# Altium schematic symbol library Schlib1.SchLib: 21 symbols
Pins are listed as number, name and electrical type; pins without a type are passive.

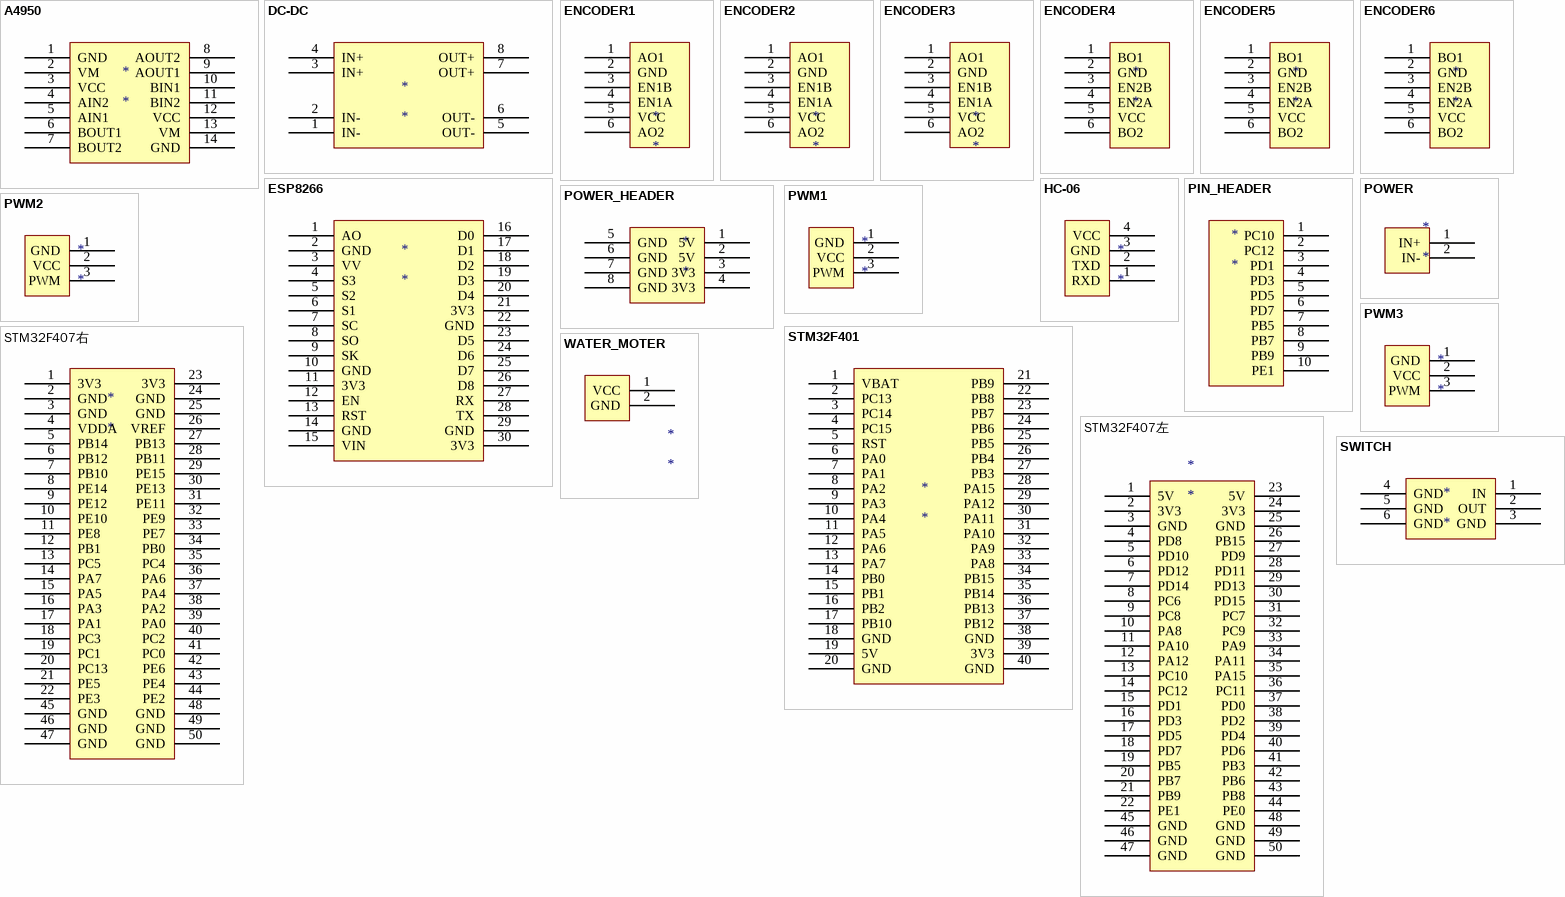
[diagram p0: symbols A4950 to WATER_MOTER]

## A4950
designator *
footprint A4950
pins: 1 GND, 2 VM, 3 VCC, 4 AIN2, 5 AIN1, 6 BOUT1, 7 BOUT2, 8 AOUT2, 9 AOUT1, 10 BIN1, 11 BIN2, 12 VCC, 13 VM, 14 GND

## DC-DC
designator *
footprint DC-DC
pins: 1 IN-, 2 IN-, 3 IN+, 4 IN+, 5 OUT-, 6 OUT-, 7 OUT+, 8 OUT+

## ENCODER1
designator *
footprint ENCODER1
footprint ENCODER1
pins: 1 AO1, 2 GND, 3 EN1B, 4 EN1A, 5 VCC, 6 AO2

## ENCODER2
designator *
footprint ENCODER1
pins: 1 AO1, 2 GND, 3 EN1B, 4 EN1A, 5 VCC, 6 AO2

## ENCODER3
designator *
footprint ENCODER1
pins: 1 AO1, 2 GND, 3 EN1B, 4 EN1A, 5 VCC, 6 AO2

## ENCODER4
designator *
footprint ENCODER2
pins: 1 BO1, 2 GND, 3 EN2B, 4 EN2A, 5 VCC, 6 BO2

## ENCODER5
designator *
footprint ENCODER2
pins: 1 BO1, 2 GND, 3 EN2B, 4 EN2A, 5 VCC, 6 BO2

## ENCODER6
designator *
footprint ENCODER2
pins: 1 BO1, 2 GND, 3 EN2B, 4 EN2A, 5 VCC, 6 BO2

## ESP8266
designator *
footprint ESP
pins: 1 AO, 2 GND, 3 VV, 4 S3, 5 S2, 6 S1, 7 SC, 8 SO, 9 SK, 10 GND, 11 3V3, 12 EN, 13 RST, 14 GND, 15 VIN, 16 D0, 17 D1, 18 D2, 19 D3, 20 D4, 21 3V3, 22 GND, 23 D5, 24 D6, 25 D7, 26 D8, 27 RX, 28 TX, 29 GND, 30 3V3

## HC-06
designator *
footprint HC-06
pins: 1 RXD, 2 TXD, 3 GND, 4 VCC

## PIN_HEADER
designator *
footprint PIN_HEADER
pins: 1 PC10, 2 PC12, 3 PD1, 4 PD3, 5 PD5, 6 PD7, 7 PB5, 8 PB7, 9 PB9, 10 PE1

## POWER
designator *
footprint POWER
pins: 1 IN+, 2 IN-

## POWER_HEADER
designator *
footprint POWER_HEADER
footprint POWER_HEADER
pins: 1 5V, 2 5V, 3 3V3, 4 3V3, 5 GND, 6 GND, 7 GND, 8 GND

## PWM1
designator *
footprint PWM
pins: 1 GND, 2 VCC, 3 PWM

## PWM2
designator *
footprint PWM
pins: 1 GND, 2 VCC, 3 PWM

## PWM3
designator *
footprint PWM
pins: 1 GND, 2 VCC, 3 PWM

## STM32F401
designator *
footprint STM32F401CCU6
pins: 1 VBAT, 2 PC13, 3 PC14, 4 PC15, 5 RST, 6 PA0, 7 PA1, 8 PA2, 9 PA3, 10 PA4, 11 PA5, 12 PA6, 13 PA7, 14 PB0, 15 PB1, 16 PB2, 17 PB10, 18 GND, 19 5V, 20 GND, 21 PB9, 22 PB8, 23 PB7, 24 PB6, 25 PB5, 26 PB4, 27 PB3, 28 PA15, 29 PA12, 30 PA11, 31 PA10, 32 PA9, 33 PA8, 34 PB15, 35 PB14, 36 PB13, 37 PB12, 38 GND, 39 3V3, 40 GND

## STM32F407右
designator *
footprint STM32F407左
pins: 1 3V3, 2 GND, 3 GND, 4 VDDA, 5 PB14, 6 PB12, 7 PB10, 8 PE14, 9 PE12, 10 PE10, 11 PE8, 12 PB1, 13 PC5, 14 PA7, 15 PA5, 16 PA3, 17 PA1, 18 PC3, 19 PC1, 20 PC13, 21 PE5, 22 PE3, 23 3V3, 24 GND, 25 GND, 26 VREF, 27 PB13, 28 PB11, 29 PE15, 30 PE13, 31 PE11, 32 PE9, 33 PE7, 34 PB0, 35 PC4, 36 PA6, 37 PA4, 38 PA2, 39 PA0, 40 PC2, 41 PC0, 42 PE6, 43 PE4, 44 PE2, 45 GND, 46 GND, 47 GND, 48 GND, 49 GND, 50 GND

## STM32F407左
designator *
footprint STM32F407左
pins: 1 5V, 2 3V3, 3 GND, 4 PD8, 5 PD10, 6 PD12, 7 PD14, 8 PC6, 9 PC8, 10 PA8, 11 PA10, 12 PA12, 13 PC10, 14 PC12, 15 PD1, 16 PD3, 17 PD5, 18 PD7, 19 PB5, 20 PB7, 21 PB9, 22 PE1, 23 5V, 24 3V3, 25 GND, 26 PB15, 27 PD9, 28 PD11, 29 PD13, 30 PD15, 31 PC7, 32 PC9, 33 PA9, 34 PA11, 35 PA15, 36 PC11, 37 PD0, 38 PD2, 39 PD4, 40 PD6, 41 PB3, 42 PB6, 43 PB8, 44 PE0, 45 GND, 46 GND, 47 GND, 48 GND, 49 GND, 50 GND

## SWITCH
designator *
footprint SIWITCH
pins: 1 IN, 2 OUT, 3 GND, 4 GND, 5 GND, 6 GND

## WATER_MOTER
designator *
footprint WATER_HEADER
pins: 1 VCC, 2 GND